# EAGLE library part MSGEQ7 (library my_devices)
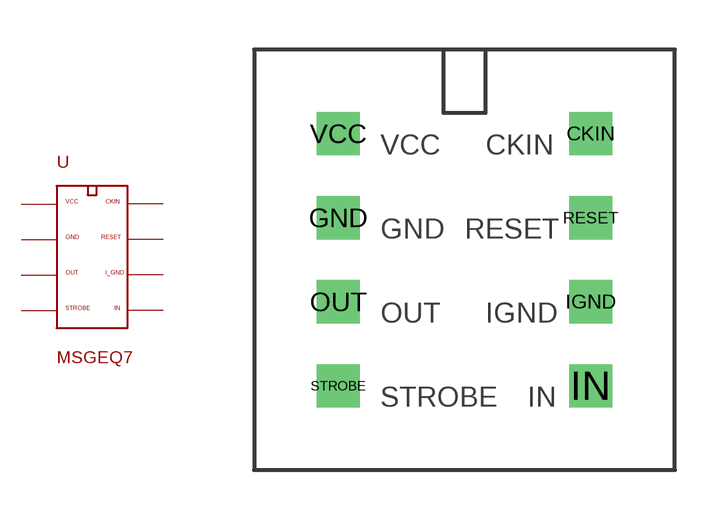
[diagram p3: symbol with the pads of MSGEQ7; footprint MSGEQ7]

Designator prefix U

## MSGEQ7  [MSGEQ7]
CKIN  CKIN  in
GND  GND  pwr
IGND  IGND
IN  IN  in
OUT  OUT  out
RESET  RESET  in
STROBE  STROBE  in
VCC  VCC  pwr

## Footprint MSGEQ7 (pad centres in mm)
drill 0.8 square: CKIN 3.81,3.81; GND -3.81,1.27; IGND 3.81,-1.27; IN 3.81,-3.81; OUT -3.81,-1.27; RESET 3.81,1.27; STROBE -3.81,-3.81; VCC -3.81,3.81